# Altium footprint library LED-XTAL.PCBLIB: 105 footprints (part 3 of 7)
Each footprint in its own frame and in the unit in brackets; x right, y up, seen from the top. Pads: shape width x height; smd on the part's side, far side on the other; paste and mask are expansions set on the pad; w line width, h text height; cw(c..) or ccw(c..) is an arc to the next point about the centre after c.
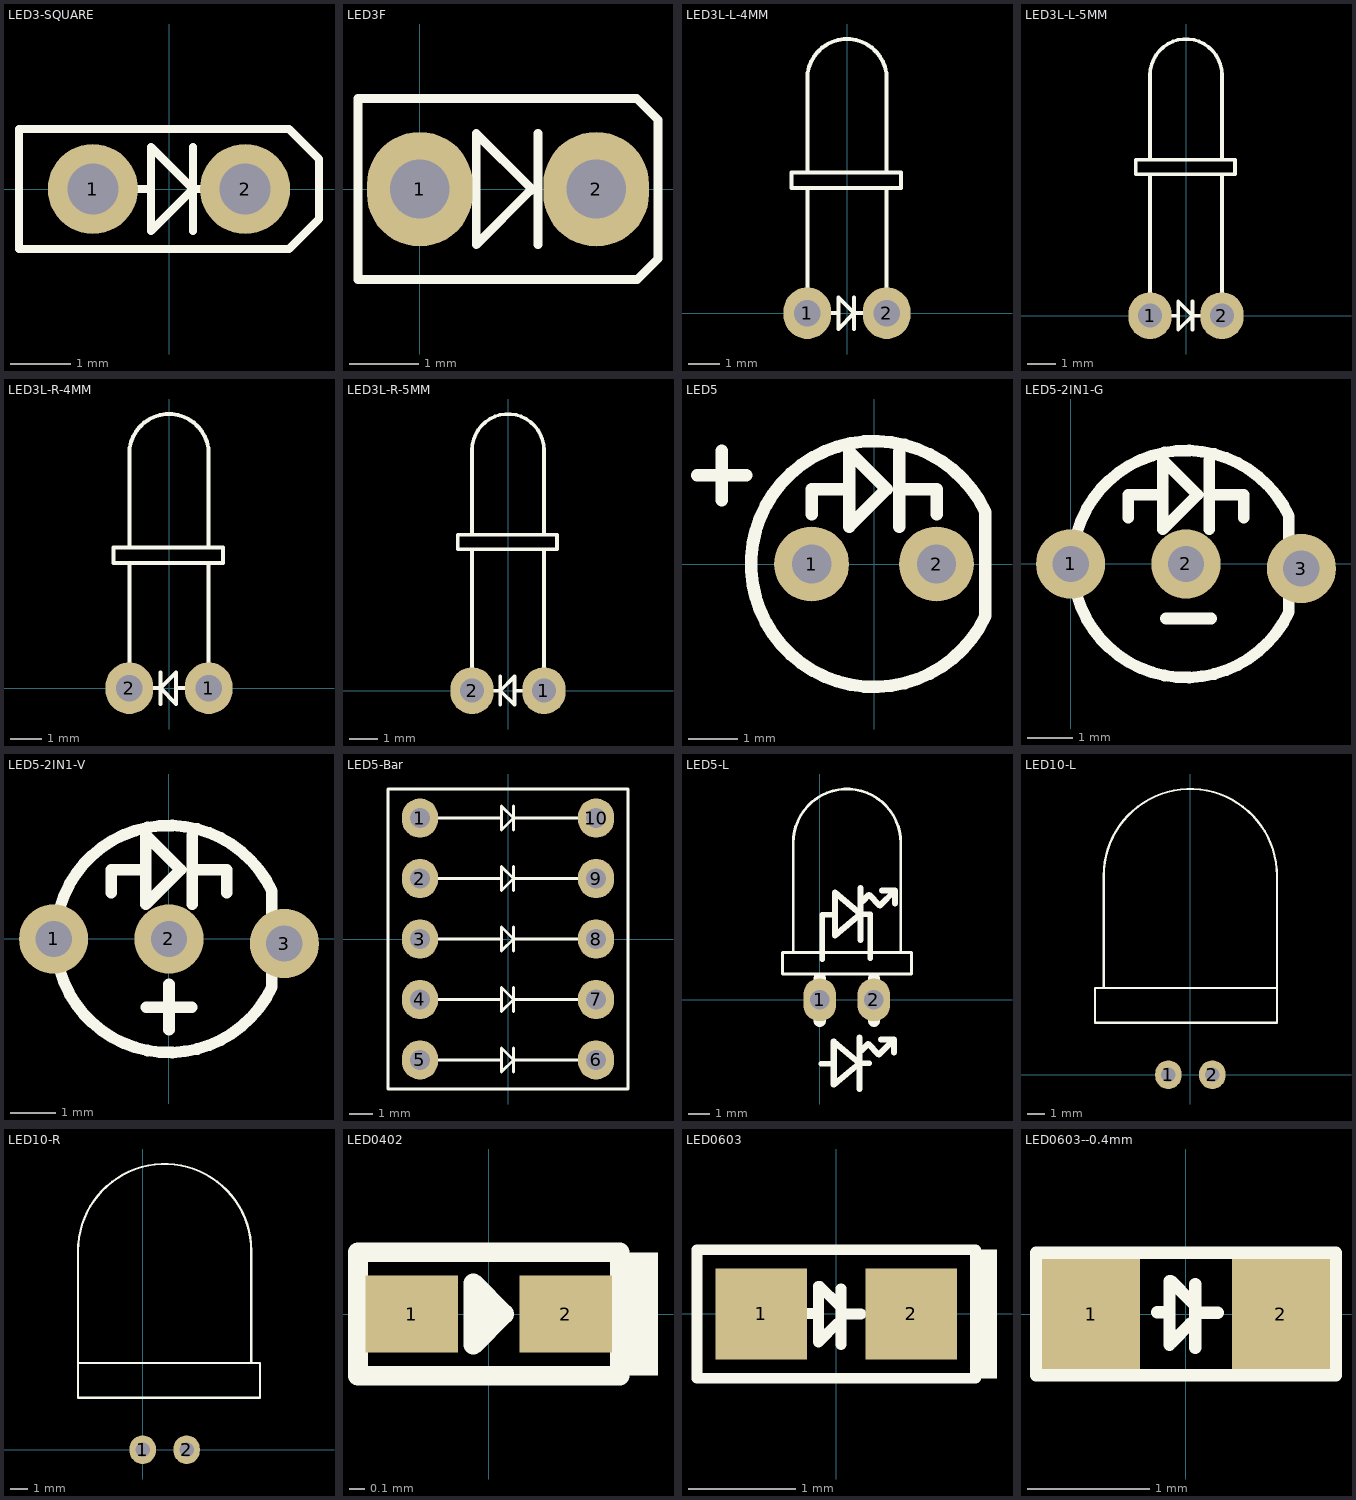
[diagram p2: the footprints below, top view; thin cyan lines are the x and y axes]

## LED3-SQUARE [mm]
pads (2):
  round 1.5 hole 0.85: 1(-1.27,0) 2(1.27,0)
TopOverlay:
  lines w0.127: -1.27,0 -0.3,0 ; 0.4,-0.7 0.4,0.7 ; 1.27,0 0.4,0 ; 0.4,0 -0.3,0.7 -0.3,-0.7 0.4,0 ; -2.5,-1 -2.5,1 2,1 2.5,0.5 2.5,-0.5 2,-1 -2.5,-1

## LED3F [mil]
pads (2):
  oval 60x65 hole 33.47: 1(0,0) 2(100,0)
TopOverlay:
  lines w5: -35,51.18 -35,-51.18 123.19,-51.18 135,-39.37 135,39.37 123.01,51.36 -35,51.36 ; 62.5,-1 32,-31.5 32,31.5 62.5,1 ; 67,-31.5 67,31.5

## LED3L-L-4MM [mil]
pads (2):
  oval 60x65 hole 33.47: 1(-50,0) 2(50,0)
TopOverlay:
  lines w5: -50,157.48 -50,0 -10.63,0 ; -50,177.17 -50,295.28 ; -50,295.15 cw(c0,295.28) 50,295.15 ; -10.63,-19.68 -10.63,19.69 9.03,0.02 ; -10.63,-19.64 9.03,0.02 ; 9.06,-19.68 9.06,19.69 ; 50,157.48 50,0 9.03,0.02 ; 50,177.17 50,295.28 ; -69.69,157.48 68.11,157.48 68.11,177.17 -69.69,177.17 -69.69,157.48

## LED3L-L-5MM [mil]
pads (2):
  oval 60x65 hole 33.47: 1(-50,0) 2(50,0)
TopOverlay:
  lines w5: -50,0 -10.63,0 ; -50,19.68 -50,196.85 ; -50,216.54 -50,334.65 ; -50,334.52 cw(c0,334.65) 50,334.52 ; -10.63,-19.68 -10.63,19.68 9.03,0.02 ; -10.63,-19.64 9.03,0.02 ; 9.06,-19.68 9.06,19.68 ; 49.98,0.02 9.03,0.02 ; 50,19.68 50,196.85 ; 50,216.54 50,334.65 ; -69.69,196.85 68.11,196.85 68.11,216.54 -69.69,216.54 -69.69,196.85

## LED3L-R-4MM [mil]
pads (2):
  oval 60x65 hole 33.46: 1(50,0) 2(-50,0)
TopOverlay:
  lines w5: -50,157.48 -50,0 -10.63,0 ; -50,177.17 -50,295.28 ; -50,295.15 cw(c0,295.28) 50,295.15 ; -10.63,-19.68 -10.63,19.69 ; 9.03,0.02 49.98,0.02 50,157.48 ; 50,177.17 50,295.28 ; -69.69,157.48 68.11,157.48 68.11,177.17 -69.69,177.17 -69.69,157.48 ; -10.61,0.02 9.06,19.69 9.06,-19.68 -10.61,-0.02

## LED3L-R-5MM [mil]
pads (2):
  oval 60x65 hole 33.46: 1(50,0) 2(-50,0)
TopOverlay:
  lines w5: -50,0 -10.63,0 ; -50,19.68 -50,196.85 ; -50,216.54 -50,334.65 ; -50,334.52 cw(c0,334.65) 50,334.52 ; -10.63,-19.68 -10.63,19.68 ; 9.03,0.02 49.98,0.02 ; 50,19.68 50,196.85 ; 50,216.54 50,334.65 ; -69.69,196.85 -69.69,216.54 68.11,216.54 68.11,196.85 -69.69,196.85 ; -10.61,-0.02 9.06,-19.68 9.06,19.68 -10.61,0.02

## LED5 [mil]
pads (2):
  round 60 hole 31.5: 1(-50,0) 2(50,0)
TopOverlay:
  lines w10: -141.73,70.87 -102.36,70.87 ; -122.05,51.18 -122.05,90.55 ; -50,40 -50,60 -20,60 ; 20,30 20,90 ; 20,60 50,60 50,40 ; -20,30 10,60 -20,90 -20,30 ; 89.2,-41.6 cw(c0,0) 89.2,41.6 89.2,-41.6

## LED5-2IN1-G [mil]
pads (3):
  round 60 hole 31.5: 1(0,0) 2(100,0) 3(200,-3.94)
TopOverlay:
  lines w10: 50,40 50,60 80,60 ; 82.68,-47.24 122.05,-47.24 ; 120,30 120,90 ; 120,60 150,60 150,40 ; 80,30 80,90 110,60 80,30 ; 189.2,-41.6 cw(c100,0) 189.2,41.6 189.2,-41.6

## LED5-2IN1-V [mil]
pads (3):
  round 60 hole 31.5: 1(-100,0) 2(0,0) 3(100,-3.94)
TopOverlay:
  lines w10: -50,40 -50,60 -20,60 ; -19.68,-59.06 19.69,-59.06 ; 0,-78.74 0,-39.37 ; 20,30 20,90 ; 20,60 50,60 50,40 ; -20,30 -20,90 10,60 -20,30 ; 89.2,-41.6 cw(c0,0) 89.2,41.6 89.2,-41.6

## LED5-Bar [mm] "LED5-Bar"
pads (10):
  oval 1.524x1.651 hole 0.85: 1(-3.7,5.08) 2(-3.7,2.54) 3(-3.7,0) 4(-3.7,-2.54) 5(-3.7,-5.08) 6(3.7,-5.08) 7(3.7,-2.54) 8(3.7,0) 9(3.7,2.54) 10(3.7,5.08)
TopOverlay:
  lines w0.127: -3.7,-5.08 -0.27,-5.08 ; -3.7,-2.54 -0.27,-2.54 ; -3.7,0 -0.27,0 ; -3.7,2.54 -0.27,2.54 ; -3.7,5.08 -0.27,5.08 ; -0.27,-5.58 -0.27,-4.58 0.229,-5.079 ; -0.27,-5.579 0.229,-5.079 ; -0.27,-3.04 -0.27,-2.04 0.229,-2.539 ; -0.27,-3.039 0.229,-2.539 ; -0.27,-0.5 -0.27,0.5 0.229,0.001 ; -0.27,-0.499 0.229,0.001 ; -0.27,2.04 -0.27,3.04 0.229,2.541 ; -0.27,2.041 0.229,2.541 ; -0.27,4.58 -0.27,5.58 0.229,5.081 ; -0.27,4.581 0.229,5.081 ; 0.23,-5.58 0.23,-4.58 ; 0.23,-3.04 0.23,-2.04 ; 0.23,-0.5 0.23,0.5 ; 0.23,2.04 0.23,3.04 ; 0.23,4.58 0.23,5.58 ; 3.7,-5.079 0.229,-5.079 ; 3.7,-2.539 0.229,-2.539 ; 3.7,0.001 0.229,0.001 ; 3.7,2.541 0.229,2.541 ; 3.7,5.081 0.229,5.081 ; -5.05,-6.3 5.05,-6.3 5.05,6.3 -5.05,6.3 -5.05,-6.3

## LED5-L [mm]
pads (2):
  oval 1.524x2 hole 0.9: 1(0,0) 2(2.515,0)
TopOverlay:
  lines w0.127: -1.233,2.202 -1.233,7.302 cw(c1.267,7.302) 3.767,7.302 3.767,2.202 ; -1.733,1.202 1.267,1.202 4.267,1.202 4.267,2.202 1.267,2.202 -1.733,2.202 -1.733,1.202
  lines w0.254: 0.058,-2.972 0.591,-2.972 ; 0.109,1.88 0.109,3.962 0.642,3.962 ; 1.852,-2.946 2.293,-2.946 ; 1.902,3.988 2.344,3.988 2.344,1.93
  lines w0.28: 1.852,-4.146 1.852,-1.746 ; 1.902,2.788 1.902,5.188 ; 1.952,-2.346 2.235,-2.057 ; 2.002,4.588 2.286,4.877 ; 2.247,-2.051 2.747,-2.551 3.447,-1.851 ; 2.298,4.883 2.798,4.383 3.498,5.083 ; 2.847,-1.851 3.447,-1.851 ; 2.898,5.083 3.498,5.083 ; 3.447,-2.451 3.447,-1.851 ; 3.498,4.483 3.498,5.083 ; 0.652,-3.946 1.852,-2.946 0.652,-1.946 0.652,-3.946 ; 0.702,2.988 1.902,3.988 0.702,4.988 0.702,2.988
  lines w0.559: 0,-0.991 0,0.991 ; 2.515,-0.991 2.515,0.991

## LED10-L [mil]
pads (2):
  oval 60x65 hole 33.46: 1(-50,0) 2(50,0)
TopOverlay:
  lines w5: -196.85,196.85 -196.85,452.76 cw(c0,452.76) 196.85,452.76 196.85,196.85 ; 196.85,196.85 -216.54,196.85 -216.54,118.11 196.85,118.11 196.85,196.85

## LED10-R [mil]
pads (2):
  oval 60x65 hole 33.46: 1(0,0) 2(100,0)
TopOverlay:
  lines w5: 246.85,196.85 246.85,452.76 ccw(c50,452.76) -146.85,452.76 -146.85,196.85 ; -146.85,196.85 266.54,196.85 266.54,118.11 -146.85,118.11 -146.85,196.85

## LED0402 [mm]
pads (2):
  rect 0.6x0.5 smd: 1(-0.5,0) 2(0.5,0)
TopOverlay:
  rectangle: 0.85,-0.4 1.1,0.4
  lines w0.127: -0.1,0 0.1,0 ; 0.1,0 -0.1,-0.2 -0.1,0.2 0.1,0 ; -0.85,-0.4 -0.85,0.4 0.85,0.4 0.85,-0.4 -0.85,-0.4

## LED0603 [mm]
pads (2):
  rect 0.85x0.85 smd: 1(-0.7,0) 2(0.7,0)
TopOverlay:
  region: 1.5,0.6 1.3,0.6 1.3,-0.6 1.5,-0.6
  lines w0.1: -0.265,0.005 -0.19,0.005 ; -0.165,-0.261 -0.165,0.259 ; -0.154,0.259 0.015,0.09 ; -0.151,-0.246 0.005,-0.09 ; 0.045,-0.285 0.045,0.235 ; 0.05,0 0.23,0 ; -1.3,-0.6 1.3,-0.6 1.3,0.6 -1.3,0.6 -1.3,0 -1.3,-0.6

## LED0603--0.4mm [mm] "LED0603--0.4mm"
pads (2):
  rect 0.8x0.9 smd: 1(-0.775,0) 2(0.775,0)
TopOverlay:
  lines w0.1: -0.235,0.015 -0.16,0.015 ; -0.135,-0.251 -0.135,0.269 ; -0.124,0.269 0.045,0.1 ; -0.121,-0.236 0.035,-0.08 ; 0.075,-0.275 0.075,0.245 ; 0.08,0.01 0.26,0.01 ; -1.225,-0.5 1.225,-0.5 1.225,0.5 -1.225,0.5 -1.225,-0.5